# EAGLE library part PLA_C64 (library commodore)
Programmable Logic Array This PLA controls which parts of memory are visible to your C64. This lib is created by Ruud Baltissen.
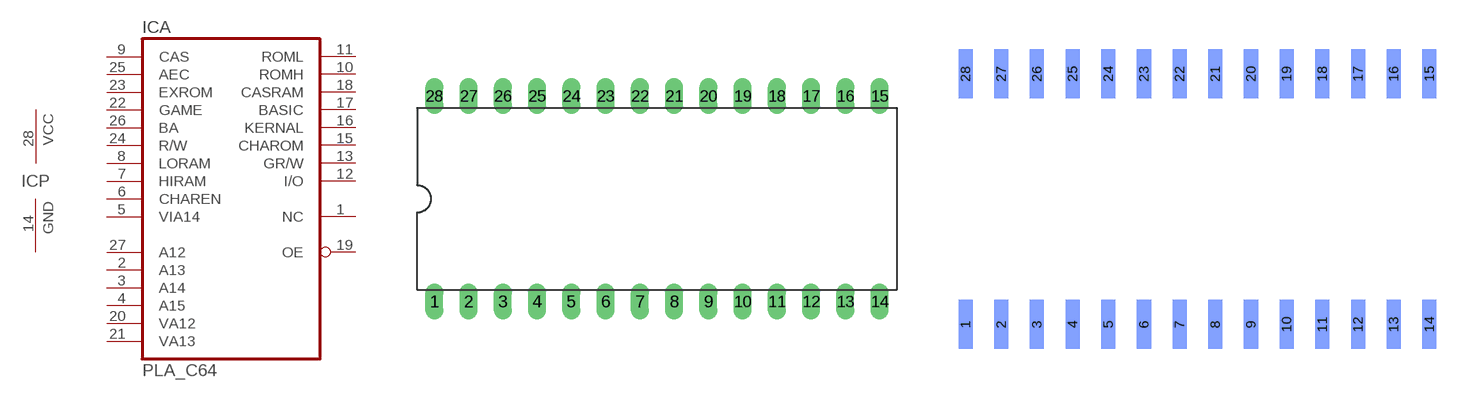
[diagram p34: symbol with the pads of DIL28; footprints DIL28, DIL28-SMD-REVERSE]

Designator prefix IC; gates A=PLA_C64 P=PWR-GND

## PLA_C64  [DIL28]
1  A:NC  nc
2  A:A13  in
3  A:A14  in
4  A:A15  in
5  A:VIA14  in
6  A:CHAREN  in
7  A:HIRAM  in
8  A:LORAM  in
9  A:CAS  in
10  A:ROMH  hiz
11  A:ROML  hiz
12  A:I/O  hiz
13  A:GR/W  hiz
14  P:GND  pwr
15  A:CHAROM  hiz
16  A:KERNAL  hiz
17  A:BASIC  hiz
18  A:CASRAM  hiz
19  A:OE  in
20  A:VA12  in
21  A:VA13  in
22  A:GAME  in
23  A:EXROM  in
24  A:R/W  in
25  A:AEC  in
26  A:BA  in
27  A:A12  in
28  P:VCC  pwr

## PLA_C64SB  [DIL28-SMD-REVERSE]
Pads as for DIL28

## PLA_C64R  [DIL28-ROUNDPAD]
Pads as for DIL28

## Footprint DIL28 (pad centres in mm)
Dual In Line Package
drill 0.813 long: 1 -16.51,-7.62; 2 -13.97,-7.62; 3 -11.43,-7.62; 4 -8.89,-7.62; 5 -6.35,-7.62; 6 -3.81,-7.62; 7 -1.27,-7.62; 8 1.27,-7.62; 9 3.81,-7.62; 10 6.35,-7.62; 11 8.89,-7.62; 12 11.43,-7.62; 13 13.97,-7.62; 14 16.51,-7.62; 15 16.51,7.62; 16 13.97,7.62; 17 11.43,7.62; 18 8.89,7.62; 19 6.35,7.62; 20 3.81,7.62; 21 1.27,7.62; 22 -1.27,7.62; 23 -3.81,7.62; 24 -6.35,7.62; 25 -8.89,7.62; 26 -11.43,7.62; 27 -13.97,7.62; 28 -16.51,7.62

## Footprint DIL28-SMD-REVERSE (pad centres in mm)
smd 1 x 3.5 bottom: 1 -16.51,-8.92; 2 -13.97,-8.92; 3 -11.43,-8.92; 4 -8.89,-8.92; 5 -6.35,-8.92; 6 -3.81,-8.92; 7 -1.27,-8.92; 8 1.27,-8.92; 9 3.81,-8.92; 10 6.35,-8.92; 11 8.89,-8.92; 12 11.43,-8.92; 13 13.97,-8.92; 14 16.51,-8.92; 15 16.51,8.92; 16 13.97,8.92; 17 11.43,8.92; 18 8.89,8.92; 19 6.35,8.92; 20 3.81,8.92; 21 1.27,8.92; 22 -1.27,8.92; 23 -3.81,8.92; 24 -6.35,8.92; 25 -8.89,8.92; 26 -11.43,8.92; 27 -13.97,8.92; 28 -16.51,8.92

## Footprint DIL28-ROUNDPAD (pad centres in mm)
Dual In Line Package
drill 0.813 square: 1 -16.51,-7.62
drill 0.813: 2 -13.97,-7.62; 3 -11.43,-7.62; 4 -8.89,-7.62; 5 -6.35,-7.62; 6 -3.81,-7.62; 7 -1.27,-7.62; 8 1.27,-7.62; 9 3.81,-7.62; 10 6.35,-7.62; 11 8.89,-7.62; 12 11.43,-7.62; 13 13.97,-7.62; 14 16.51,-7.62; 15 16.51,7.62; 16 13.97,7.62; 17 11.43,7.62; 18 8.89,7.62; 19 6.35,7.62; 20 3.81,7.62; 21 1.27,7.62; 22 -1.27,7.62; 23 -3.81,7.62; 24 -6.35,7.62; 25 -8.89,7.62; 26 -11.43,7.62; 27 -13.97,7.62; 28 -16.51,7.62